# Altium footprint library Trap_PCB_V3.3.PcbLib: 21 footprints (part 2 of 2)
Each footprint in its own frame and in the unit in brackets; x right, y up, seen from the top. Pads: shape width x height; smd on the part's side, far side on the other; paste and mask are expansions set on the pad; w line width, h text height; cw(c..) or ccw(c..) is an arc to the next point about the centre after c.
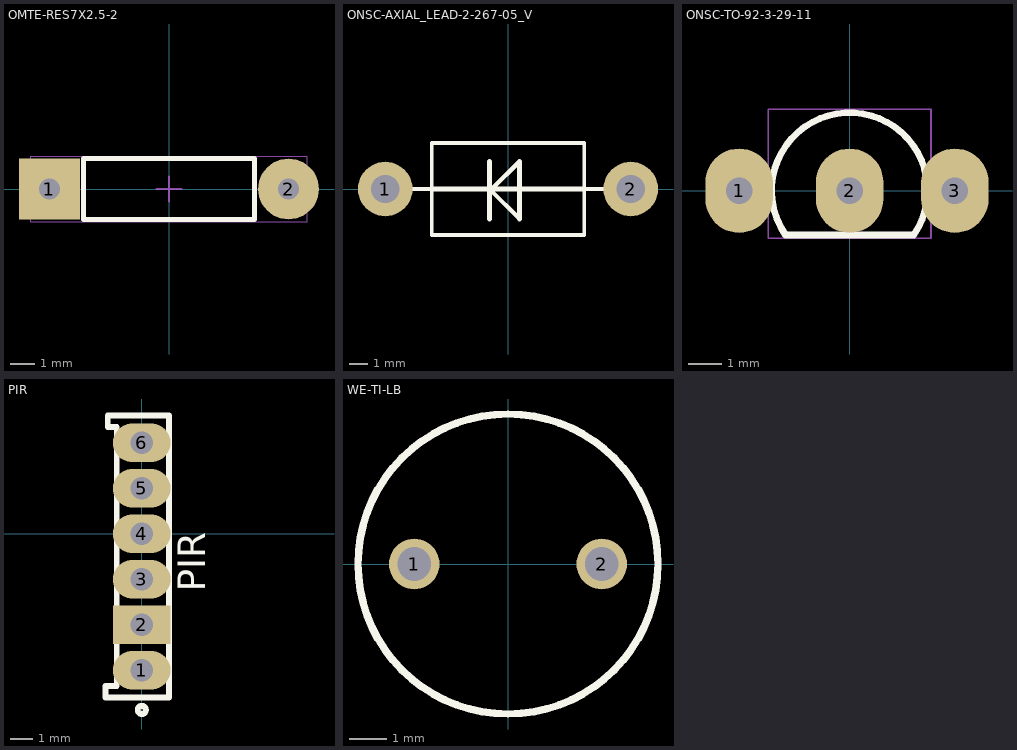
[diagram p1: the footprints below, top view; thin cyan lines are the x and y axes]

## OMTE-RES7X2.5-2 [mm] "Resistor, Axial; Body 7x2.5mm, Lead Dia. 0.6mm"
height 2.5
pads (2):
  rect 2.5x2.5 hole 0.85: 1(-4.9,0)
  round 2.5 hole 0.85: 2(4.9,0)
Top Overlay:
  lines w0.2: -3.5,-1.25 3.5,-1.25 3.5,1.25 -3.5,1.25 -3.5,-1.25
Top 3D Body:
  lines w0.1: -3.5,-1.25 3.5,-1.25 3.5,1.25 -3.5,1.25 -3.5,-1.25
Mechanical 15:
  lines w0.05: -5.675,-1.35 -5.675,1.35 5.675,1.35 5.675,-1.35 -5.675,-1.35
  lines w0.1: -0.5,0 0.5,0 ; 0,-0.5 0,0.5
3D body: height 2.5, standoff 0, extent -3.5,-1.25 3.5,1.25

## ONSC-AXIAL_LEAD-2-267-05_V [mm] "AXIAL, 2-Leads, Diameter 5.05mm"
height 5.05
pads (2):
  round 3 hole 1.55: 1(-6.745,0) 2(6.745,0)
Top Overlay:
  lines w0.2: -5.32,0 -4.2,0 ; 4.2,0 5.32,0 ; -4.2,-2.525 -4.2,2.525 4.2,2.525 4.2,-2.525 -4.2,-2.525
  lines w0.254: -4.2,0 4.2,0 1.016,0 0.889,0 ; -1.016,1.524 -1.016,-1.651 -1.016,0 0.635,-1.651 0.635,1.524 -0.889,0

## ONSC-TO-92-3-29-11 [mm] "TO, 3-Leads, Body Dia 4.7mm, Pitch 1.27mm"
height 7.87
pads (3):
  oval 2.032x2.54 hole 0.8: 1(-3.33,0) 2(0,0) 3(3.17,0)
Top Overlay:
  circle w0.25: c-2.95,0 r0.125
  lines w0.2: -1.934,-1.335 cw(c0,0) 1.934,-1.335 -1.934,-1.335
Top 3D Body:
  lines w0.1: -1.934,-1.335 cw(c0,0) 1.934,-1.335 -1.934,-1.335
Mechanical 15:
  lines w0.05: -2.45,-1.435 -2.45,2.45 2.45,2.45 2.45,-1.435 -2.45,-1.435
  lines w0.1: -0.5,0 0.5,0 ; 0,-0.5 0,0.5
3D body: height 7.87, standoff 2.54, extent -2.349,-1.334 2.357,2.359

## PIR [mm]
pads (6):
  oval 2.54x1.7 hole 1: 1(0,-6) 3(0,-2) 4(0,0) 5(0,2) 6(0,4)
  rect 2.54x1.7 hole 1: 2(0,-4)
Top Overlay:
  circle w0.254: c0,-7.747 r0.18
  lines w0.254: -1.6,-7.2 -1.6,-6.7 -1.1,-6.7 -1.1,4.699 -1.5,4.699 -1.5,5.207 1.2,5.207 1.2,-7.2 -1.6,-7.2
  text "PIR" at 2.794,-2.54 h1.2

## WE-TI-LB [mm] "THT Inductor, 2-Leads, Body 8.0 x 8.0 mm"
height 12.5
pads (2):
  round 1.35 hole 0.9: 1(-2.5,0) 2(2.5,0)
Top Overlay:
  circle w0.2: c0,0 r4
Top Courtyard:
  circle w0.1: c0,0 r4
3D body "744743101.stp": height 12.51, standoff -4.99, extent -3.965,-3.956 3.965,3.975